# EAGLE library part NL7037 (library mynixies)
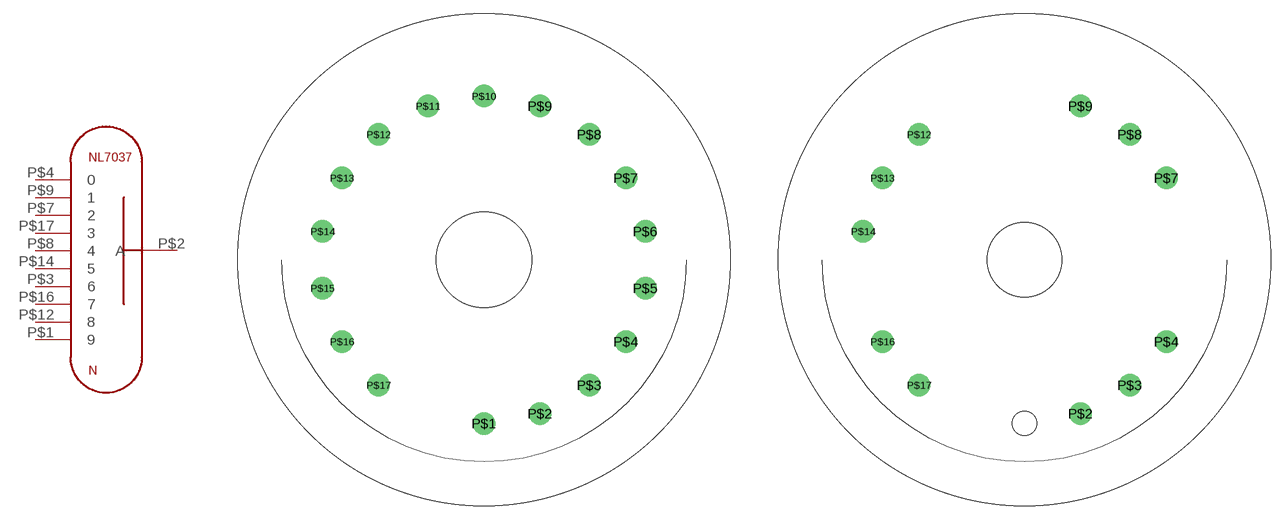
[diagram p8: symbol with the pads of RTS-5-DSUB-ALLPINS; footprints RTS-5-DSUB-ALLPINS, RTS-5-DSUB]

Designator prefix N

## NL7037ALLPINS  [RTS-5-DSUB-ALLPINS]
P$1  9  pas
P$2  A  pas
P$3  6  pas
P$4  0  pas
P$7  2  pas
P$8  4  pas
P$9  1  pas
P$12  8  pas
P$14  5  pas
P$16  7  pas
P$17  3  pas

## NL7037  [RTS-5-DSUB]
P$2  A  pas
P$3  6  pas
P$4  0  pas
P$7  2  pas
P$8  4  pas
P$9  1  pas
P$12  8  pas
P$13  9  pas
P$14  5  pas
P$16  7  pas
P$17  3  pas

## Footprint RTS-5-DSUB-ALLPINS (pad centres in mm)
drill 1.6: P$1 0,-17.462; P$2 5.973,-16.409; P$3 11.225,-13.377; P$4 15.123,-8.731; P$5 17.197,-3.032; P$6 17.197,3.032; P$7 15.123,8.731; P$8 11.225,13.377; P$9 5.973,16.409; P$10 0,17.462; P$11 -5.973,16.409; P$12 -11.225,13.377; P$13 -15.123,8.731; P$14 -17.197,3.032; P$15 -17.197,-3.032; P$16 -15.123,-8.731; P$17 -11.225,-13.377
hole 10.16 at 0,0

## Footprint RTS-5-DSUB (pad centres in mm)
drill 1.6: P$2 5.973,-16.409; P$3 11.225,-13.377; P$4 15.123,-8.731; P$7 15.123,8.731; P$8 11.225,13.377; P$9 5.973,16.409; P$12 -11.225,13.377; P$13 -15.123,8.731; P$14 -17.197,3.032; P$16 -15.123,-8.731; P$17 -11.225,-13.377
hole 7.938 at 0,0